# Altium schematic symbol library TSX-3225.Schlib: 1 symbol
Pins are listed as number, name and electrical type; pins without a type are passive.

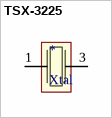
[diagram p0: symbol TSX-3225]

## TSX-3225
designator *, comment Xtal
XTAL TSX-3225 SM RADIO REF XTAL
pins: 1, 3